# EAGLE library part 625030230621 (library Wire-to-Board)
WR-BHD 2.00mm Male SMT Box Header With Lever, 30 pins
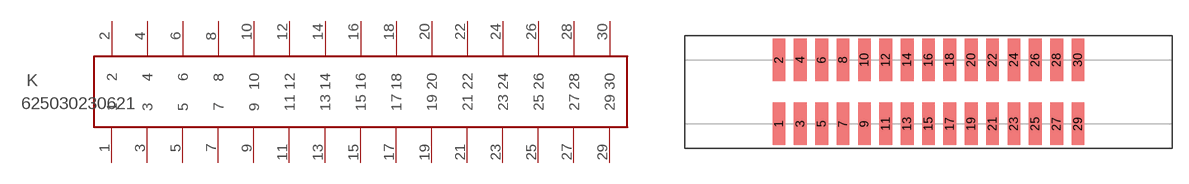
[diagram p242: symbol with the pads of 625030230621; footprint 625030230621]

Designator prefix K

## 625030230621  [625030230621]
1  1  pas
2  2  pas
3  3  pas
4  4  pas
5  5  pas
6  6  pas
7  7  pas
8  8  pas
9  9  pas
10  10  pas
11  11  pas
12  12  pas
13  13  pas
14  14  pas
15  15  pas
16  16  pas
17  17  pas
18  18  pas
19  19  pas
20  20  pas
21  21  pas
22  22  pas
23  23  pas
24  24  pas
25  25  pas
26  26  pas
27  27  pas
28  28  pas
29  29  pas
30  30  pas

## Footprint 625030230621 (pad centres in mm)
WR-BHD-2.00mm Male SMT Box Header With Lever,30 pins
smd 1.2 x 4: 1 -14,-3; 2 -14,3; 3 -12,-3; 4 -12,3; 5 -10,-3; 6 -10,3; 7 -8,-3; 8 -8,3; 9 -6,-3; 10 -6,3; 11 -4,-3; 12 -4,3; 13 -2,-3; 14 -2,3; 15 0,-3; 16 0,3; 17 2,-3; 18 2,3; 19 4,-3; 20 4,3; 21 6,-3; 22 6,3; 23 8,-3; 24 8,3; 25 10,-3; 26 10,3; 27 12,-3; 28 12,3; 29 14,-3; 30 14,3